# EAGLE library part WAGO-2X3-508 (library JLB6_Connec)
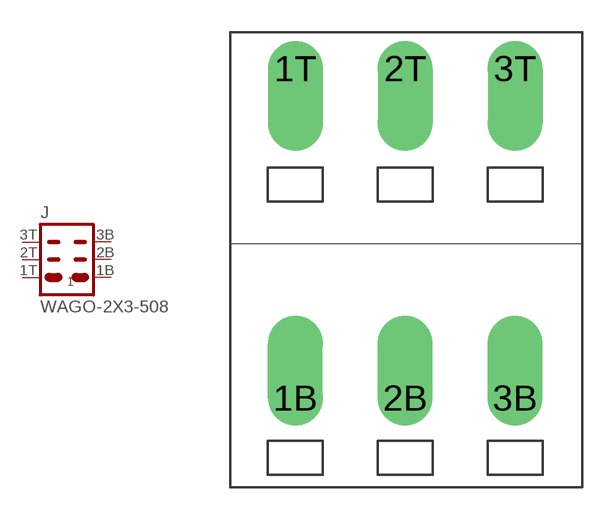
[diagram p74: symbol with the pads of BORNE-WAGO-2X3-508; footprint BORNE-WAGO-2X3-508]

Designator prefix J

## WAGO-2X3-508  [BORNE-WAGO-2X3-508]
1B  1B  pas
1T  1  pas
2B  2B  pas
2T  2  pas
3B  3B  pas
3T  3  pas

## Footprint BORNE-WAGO-2X3-508 (pad centres in mm)
drill 1.3 pad 2.54 offset: 1B -5.08,0; 1T -5.08,15.24; 2B 0,0; 2T 0,15.24; 3B 5.08,0; 3T 5.08,15.24